# Altium schematic symbol library 模拟均衡器.SchLib: 23 symbols
Pins are listed as number, name and electrical type; pins without a type are passive.

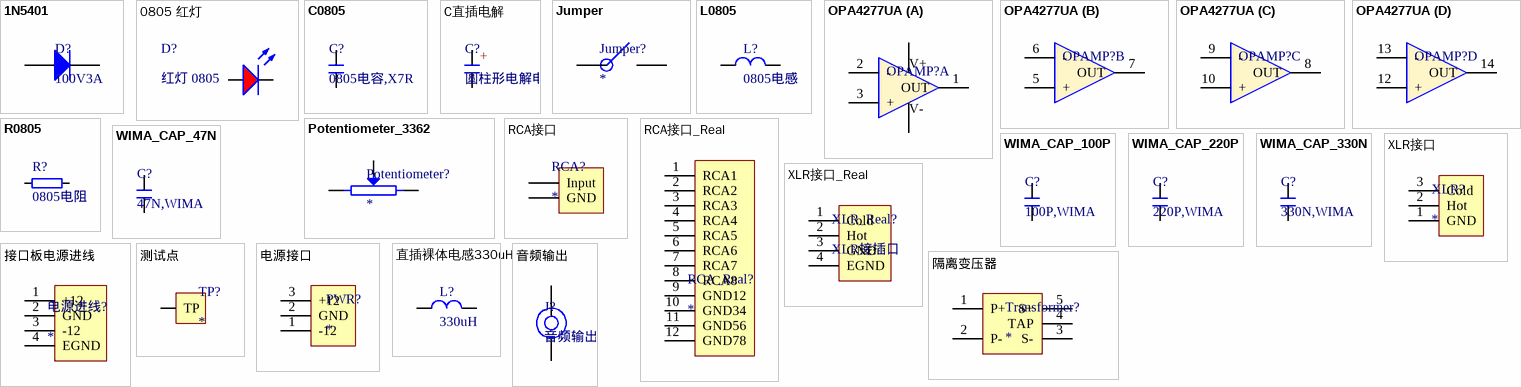
[diagram p0: symbols 1N5401 to 音频输出]

## 1N5401
designator D?, comment 100V3A
footprint DO-201AD (5.2*15.2mm(直径，脚距）)
pins: 1 A, 2 K

## 0805 红灯
designator D?, comment 红灯 0805
发光二极管; ComponentLink1Description: 供应商链接; ComponentLink1URL: http://www.szlcsc.com/product/details_2668.html; Package: 0805; Supplier: LC; SuppliersPartNumber: C2295
footprint 0805_LED_S3
pins: A, K

## C0805
designator C?, comment 0805电容,X7R
footprint 0805_C
pins: 1, 2

## C直插电解
designator C?, comment 圆柱形电解电容
footprint CAP 2.0*5*11 (脚距2mm直径5mm高度11mm)
footprint CAP 2.5*6.3*11.2 (脚距2.5mm直径6.3mm高度11.2mm)
footprint CAP 7.5*16*31.5 - BK (脚距7.5mm直径16mm高度31.5mm)
pins: 1, 2
text: +

## Jumper
designator Jumper?
footprint 0805_J
pins: 1, 2

## L0805
designator L?, comment 0805电感
footprint 0805_L
pins: 1, 2

## OPA4277UA
designator OPAMP?, comment 4277UA  (value not drawn)
footprint SOIC-14_150mil
part A pins: 1 OUT, 2 -, 3 +, 4 V+, 11 V-
part B pins: 5 +, 6 -, 7 OUT
part C pins: 8 OUT, 9 -, 10 +
part D pins: 12 +, 13 -, 14 OUT

## Potentiometer_3362
designator Potentiometer?
footprint 3362P
pins: 1, 2 W, 3 2

## R0805
designator R?, comment 0805电阻
footprint 0805_R
pins: 1, 2

## RCA接口
designator RCA?
footprint XH2.54-LI-2P (接插件，2P)
pins: 1 Input, 2 GND

## RCA接口_Real
designator RCA_Real?
footprint RCA_Real (RCA外部接口)
pins: 1 RCA1, 2 RCA2, 3 RCA3, 4 RCA4, 5 RCA5, 6 RCA6, 7 RCA7, 8 RCA8, 9 GND12, 10 GND34, 11 GND56, 12 GND78

## WIMA_CAP_47N
designator C?, comment 47N,WIMA
footprint WIMA_5mm (WIMA_5mm*7.2*4.5*5.8(PIN*L*W*H))
pins: 1, 2

## WIMA_CAP_100P
designator C?, comment 100P,WIMA
footprint WIMA_5mm (WIMA_5mm*7.2*4.5*5.8(PIN*L*W*H))
pins: 1, 2

## WIMA_CAP_220P
designator C?, comment 220P,WIMA
footprint WIMA_5mm (WIMA_5mm*7.2*4.5*5.8(PIN*L*W*H))
pins: 1, 2

## WIMA_CAP_330N
designator C?, comment 330N,WIMA
footprint WIMA_5mmPin*10mmL (WIMA_5mm*10*4.5*5.8(PIN*L*W*H))
pins: 1, 2

## XLR接口
designator XLR?
footprint XH2.54-LI-3P (接插件，3P)
pins: 1 GND, 2 Hot, 3 Cold

## XLR接口_Real
designator XLR_Real?, comment XLR接插口
footprint XLR_Real (XLR实体接口)
pins: 1 Cold, 2 Hot, 3 GND, 4 EGND

## 接口板电源进线
designator 电源进线?
footprint AC_Adaptor_Input (AC适配器的输入 代地球地接口)
pins: 1 +12, 2 GND, 3 -12, 4 EGND

## 测试点
designator TP?
footprint TestPoint
pins: 1 TP

## 电源接口
designator PWR?
footprint XH2.54-LI-3P (接插件，3P)
pins: 1 -12, 2 GND, 3 +12

## 直插裸体电感330uH
designator L?, comment 330uH
footprint Inductor (裸体直插电感 330uH)
pins: 1, 2

## 隔离变压器
designator Transformer?
footprint Transformer (1:1隔离变压器)
pins: 1 P+, 2 P-, 3 S-, 4 TAP, 5 S+

## 音频输出
designator J?
footprint XH2.54-LI-2P (接插件，2P)
pins: 1 MIC, 2 GND